# Altium footprint library DIODE_SOD-128-2.PcbLib: 1 footprints
Each footprint in its own frame and in the unit in brackets; x right, y up, seen from the top. Pads: shape width x height; smd on the part's side, far side on the other; paste and mask are expansions set on the pad; w line width, h text height; cw(c..) or ccw(c..) is an arc to the next point about the centre after c.
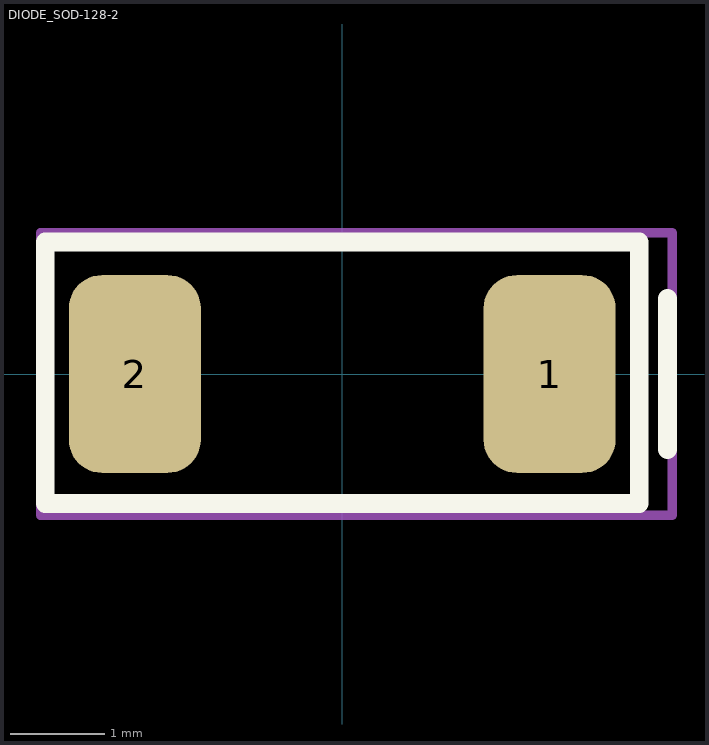
[diagram p0: the footprint, top view; thin cyan lines are the x and y axes]

## DIODE_SOD-128-2 [mm]
pads (2):
  rrect50% 1.4x2.1 smd: 1(2.2,0) 2(-2.2,0)
Top Overlay:
  lines w0.2: 3.45,-0.8 3.45,0.8 ; -3.15,-1.375 3.15,-1.375 3.15,1.4 -3.15,1.4 -3.15,-1.375
Top Courtyard:
  lines w0.1: -3.2,-1.5 -2.35,-1.5 3.5,-1.5 3.5,1.5 -3.2,1.5 -3.2,-1.5
3D body "PMEG6030EP_8X.STEP": height 1.1, standoff 0, extent -2.35,-1.25 2.35,1.25